# Altium schematic symbol library RPMH5.0-1.5.SchLib: 1 symbol
Pins are listed as number, name and electrical type; pins without a type are passive.

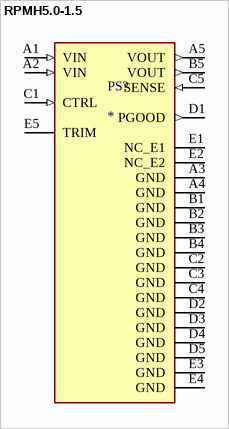
[diagram p0: symbol RPMH5.0-1.5]

## RPMH5.0-1.5
designator PS?
Non-Isolated PoL Module DC DC Converter 1 Output 5V 1.5A 7V - 60V Input; MP: RPMH5.0-1.5; MF: Recom Power; Purchase-URL: https://pricing.snapeda.com/search/part/RPMH5.0-1.5/?ref=eda; Check_prices: https://www.snapeda.com/parts/RPMH5.0-1.5/Recom%20Power/view-part/5474337/?ref=eda; SnapEDA_Link: https://www.snapeda.com/parts/RPMH5.0-1.5/Recom%20Power/view-part/5474337/?ref=snap; Availability: Warning; Price: None; Package: None; Value: *
footprint CONV_RPMH5.0-1.5
pins: A1 VIN (in), A2 VIN (in), A3 GND (power), A4 GND (power), A5 VOUT (out), B1 GND (power), B2 GND (power), B3 GND (power), B4 GND (power), B5 VOUT (out), C1 CTRL (in), C2 GND (power), C3 GND (power), C4 GND (power), C5 SENSE (in), D1 PGOOD (out), D2 GND (power), D3 GND (power), D4 GND (power), D5 GND (power), E1 NC_E1, E2 NC_E2, E3 GND (power), E4 GND (power), E5 TRIM